# EAGLE library part 130_OLED (library LW_DUB)
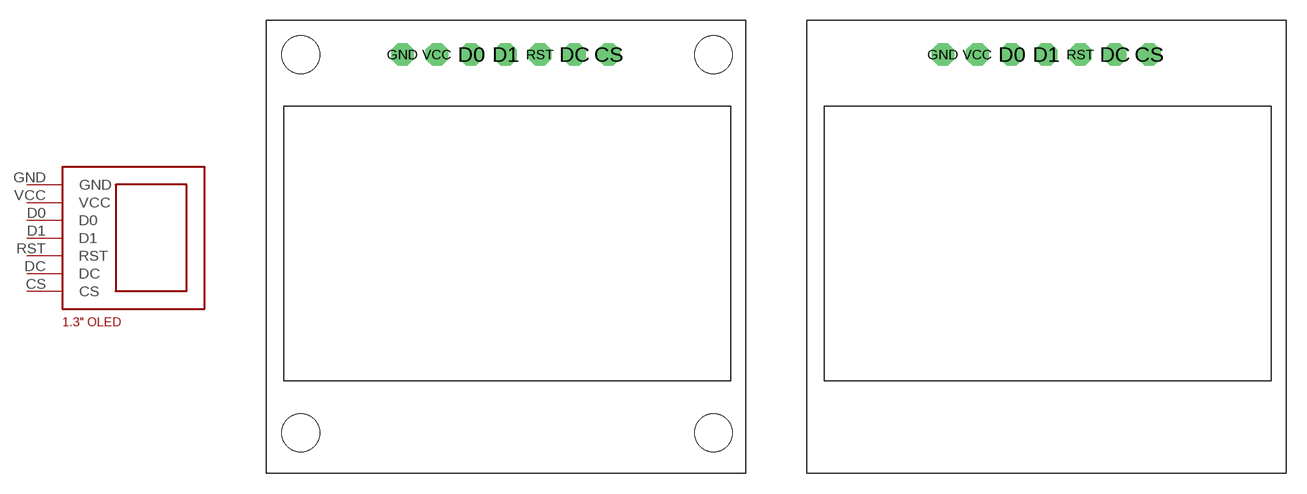
[diagram p16: symbol with the pads of 130_OLED_MIT_LOCH; footprints 130_OLED_MIT_LOCH, 130_OLED_OHNE_LOCH]

Designator prefix -

## 130_OLED130_OLED_MIT_LOCH  [130_OLED_MIT_LOCH]
CS  CS
D0  D0
D1  D1
DC  DC
GND  GND
RST  RST
VCC  VCC

## 130_OLED130_OLED_OHNE_LOCH  [130_OLED_OHNE_LOCH]
Pads as for 130_OLED_MIT_LOCH

## Footprint 130_OLED_MIT_LOCH (pad centres in mm)
drill 0.8 pad 1.676 octagon: CS 7.51,12.72; D0 -2.65,12.72; D1 -0.11,12.72; DC 4.97,12.72; GND -7.73,12.72; RST 2.43,12.72; VCC -5.19,12.72
hole 2.8 at -15.24,12.7
hole 2.8 at 15.24,12.7
hole 2.8 at 15.24,-15.24
hole 2.8 at -15.24,-15.24

## Footprint 130_OLED_OHNE_LOCH (pad centres in mm)
drill 0.8 pad 1.676 octagon: CS 7.51,12.72; D0 -2.65,12.72; D1 -0.11,12.72; DC 4.97,12.72; GND -7.73,12.72; RST 2.43,12.72; VCC -5.19,12.72